# Altium schematic symbol library RES,10R,5%,3W,Axial,Thru.Schlib: 1 symbol
Pins are listed as number, name and electrical type; pins without a type are passive.

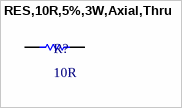
[diagram p0: symbol RES,10R,5%,3W,Axial,Thru]

## RES,10R,5%,3W,Axial,Thru
designator R?, comment 10R
10 Ohms ±5% 3W Through Hole Resistor Axial Flame Retardant Coating, Safety Wirewound
pins: 1, 2